# Altium footprint library MountingHole.PcbLib: 167 footprints (part 2 of 11)
Each footprint in its own frame and in the unit in brackets; x right, y up, seen from the top. Pads: shape width x height; smd on the part's side, far side on the other; paste and mask are expansions set on the pad; w line width, h text height; cw(c..) or ccw(c..) is an arc to the next point about the centre after c.
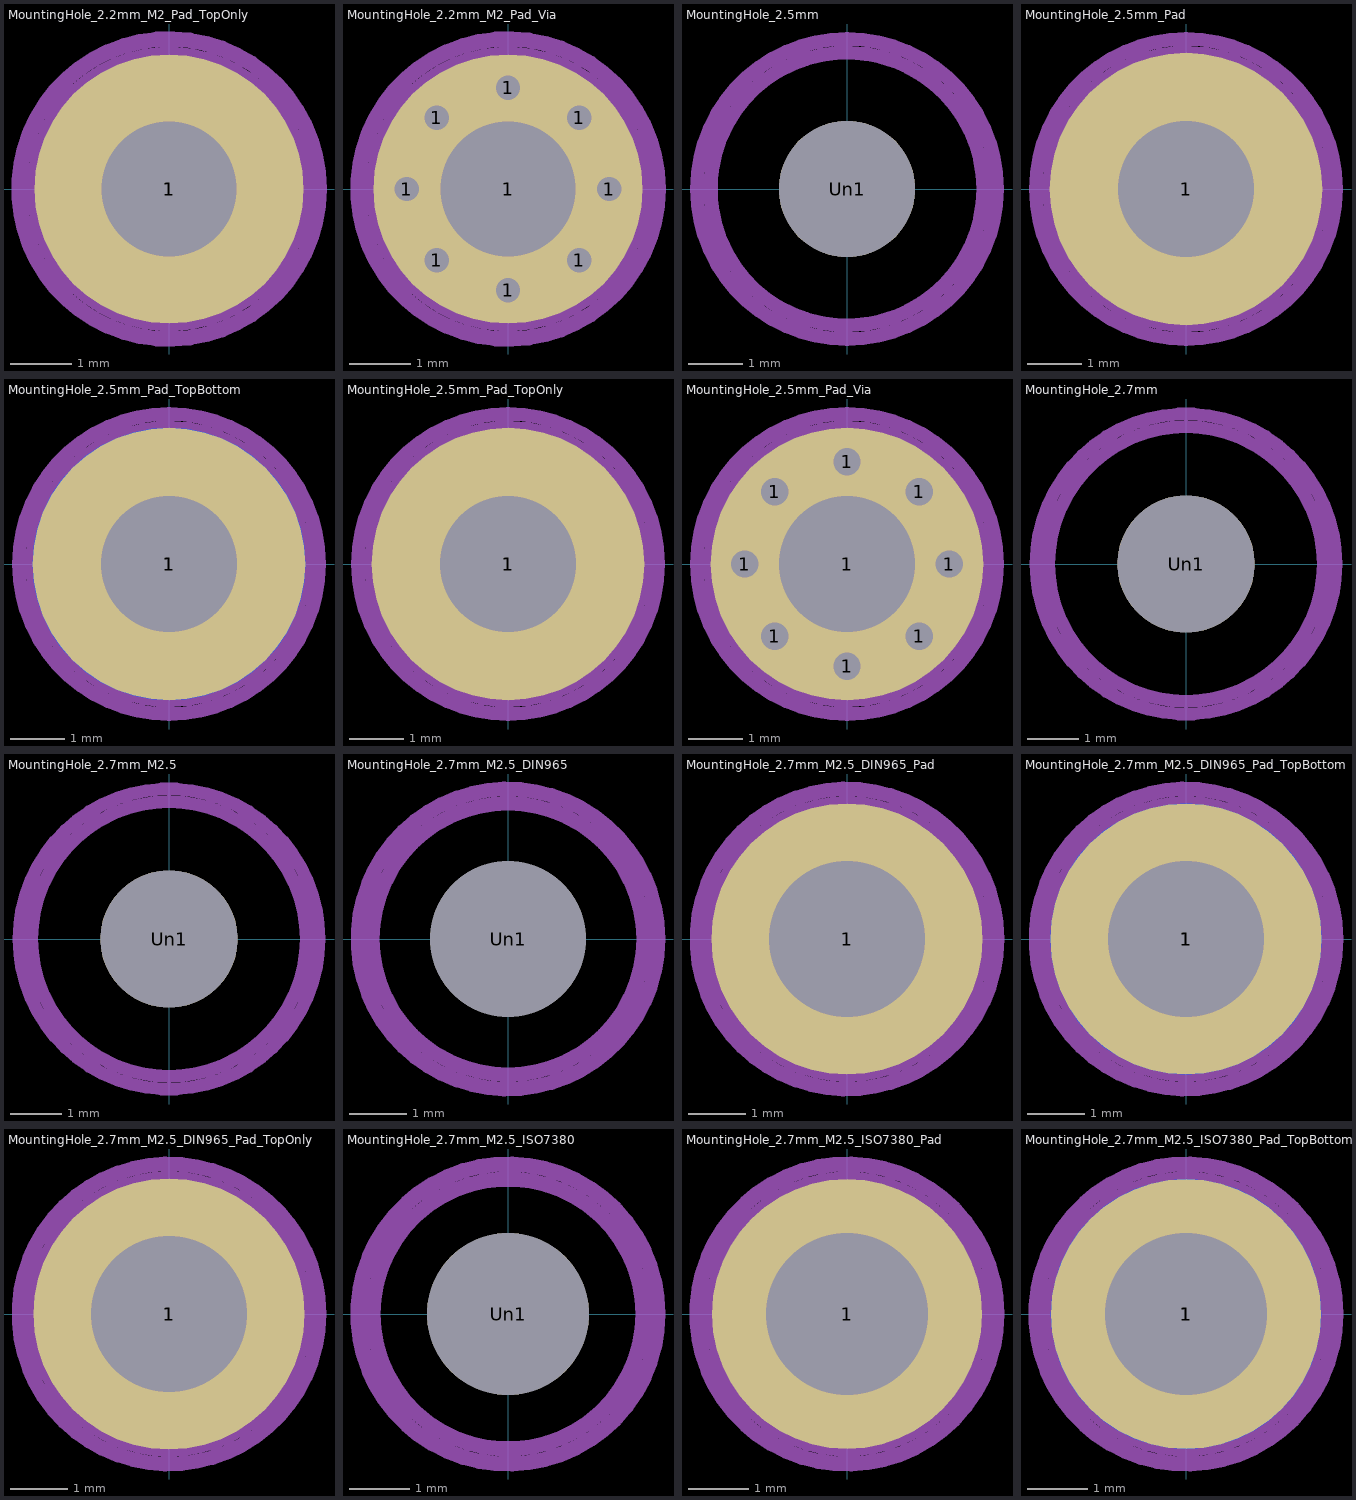
[diagram p1: the footprints below, top view; thin cyan lines are the x and y axes]

## MountingHole_2.2mm_M2_Pad_TopOnly [mm]
pads (2):
  round 2.6 hole 2.2: 1(0,0)
  round 4.4 smd: 1(0,0)
Top Assembly:
  text "'.Designator'" at -4.047,-0.84 h1
Top Courtyard:
  circle w0.254: c0,0 r2.45
Top Designator:
  text ".Designator" at -7.768,-0.508 h1.52
Cmts.User:
  circle w0.254: c0,0 r2.2

## MountingHole_2.2mm_M2_Pad_Via [mm]
pads (9):
  round 0.7 hole 0.4: 1(-1.65,0) 1(-1.167,-1.167) 1(-1.167,1.167) 1(0,-1.65) 1(0,1.65) 1(1.167,-1.167) 1(1.167,1.167) 1(1.65,0)
  round 4.4 hole 2.2: 1(0,0)
Top Assembly:
  text "'.Designator'" at -4.047,-0.84 h1
Top Courtyard:
  circle w0.254: c0,0 r2.45
Top Designator:
  text ".Designator" at -7.768,-0.508 h1.52
Cmts.User:
  circle w0.254: c0,0 r2.2

## MountingHole_2.5mm [mm]
pads (1):
  round 2.5 hole 2.5: Un1(0,0)
Top Assembly:
  text "'.Designator'" at -4.047,-0.84 h1
Top Courtyard:
  circle w0.254: c0,0 r2.75
Top Designator:
  text ".Designator" at -7.768,-0.508 h1.52
Cmts.User:
  circle w0.254: c0,0 r2.5

## MountingHole_2.5mm_Pad [mm]
pads (1):
  round 5 hole 2.5: 1(0,0)
Top Assembly:
  text "'.Designator'" at -4.047,-0.84 h1
Top Courtyard:
  circle w0.254: c0,0 r2.75
Top Designator:
  text ".Designator" at -7.768,-0.508 h1.52
Cmts.User:
  circle w0.254: c0,0 r2.5

## MountingHole_2.5mm_Pad_TopBottom [mm]
pads (3):
  round 2.9 hole 2.5: 1(0,0)
  round 5 smd: 1(0,0)
  round 5 smd far side: 1(0,0)
Top Assembly:
  text "'.Designator'" at -4.047,-0.84 h1
Top Courtyard:
  circle w0.254: c0,0 r2.75
Top Designator:
  text ".Designator" at -7.768,-0.508 h1.52
Cmts.User:
  circle w0.254: c0,0 r2.5

## MountingHole_2.5mm_Pad_TopOnly [mm]
pads (2):
  round 2.9 hole 2.5: 1(0,0)
  round 5 smd: 1(0,0)
Top Assembly:
  text "'.Designator'" at -4.047,-0.84 h1
Top Courtyard:
  circle w0.254: c0,0 r2.75
Top Designator:
  text ".Designator" at -7.768,-0.508 h1.52
Cmts.User:
  circle w0.254: c0,0 r2.5

## MountingHole_2.5mm_Pad_Via [mm]
pads (9):
  round 0.8 hole 0.5: 1(-1.875,0) 1(-1.326,-1.326) 1(-1.326,1.326) 1(0,-1.875) 1(0,1.875) 1(1.326,-1.326) 1(1.326,1.326) 1(1.875,0)
  round 5 hole 2.5: 1(0,0)
Top Assembly:
  text "'.Designator'" at -4.047,-0.84 h1
Top Courtyard:
  circle w0.254: c0,0 r2.75
Top Designator:
  text ".Designator" at -7.768,-0.508 h1.52
Cmts.User:
  circle w0.254: c0,0 r2.5

## MountingHole_2.7mm [mm]
pads (1):
  round 2.7 hole 2.7: Un1(0,0)
Top Assembly:
  text "'.Designator'" at -4.047,-0.84 h1
Top Courtyard:
  circle w0.254: c0,0 r2.95
Top Designator:
  text ".Designator" at -7.768,-0.508 h1.52
Cmts.User:
  circle w0.254: c0,0 r2.7

## MountingHole_2.7mm_M2.5 [mm]
pads (1):
  round 2.7 hole 2.7: Un1(0,0)
Top Assembly:
  text "'.Designator'" at -4.047,-0.84 h1
Top Courtyard:
  circle w0.254: c0,0 r2.95
Top Designator:
  text ".Designator" at -7.768,-0.508 h1.52
Cmts.User:
  circle w0.254: c0,0 r2.7

## MountingHole_2.7mm_M2.5_DIN965 [mm]
pads (1):
  round 2.7 hole 2.7: Un1(0,0)
Top Assembly:
  text "'.Designator'" at -4.047,-0.84 h1
Top Courtyard:
  circle w0.254: c0,0 r2.6
Top Designator:
  text ".Designator" at -7.768,-0.508 h1.52
Cmts.User:
  circle w0.254: c0,0 r2.35

## MountingHole_2.7mm_M2.5_DIN965_Pad [mm]
pads (1):
  round 4.7 hole 2.7: 1(0,0)
Top Assembly:
  text "'.Designator'" at -4.047,-0.84 h1
Top Courtyard:
  circle w0.254: c0,0 r2.6
Top Designator:
  text ".Designator" at -7.768,-0.508 h1.52
Cmts.User:
  circle w0.254: c0,0 r2.35

## MountingHole_2.7mm_M2.5_DIN965_Pad_TopBottom [mm]
pads (3):
  round 3.1 hole 2.7: 1(0,0)
  round 4.7 smd: 1(0,0)
  round 4.7 smd far side: 1(0,0)
Top Assembly:
  text "'.Designator'" at -4.047,-0.84 h1
Top Courtyard:
  circle w0.254: c0,0 r2.6
Top Designator:
  text ".Designator" at -7.768,-0.508 h1.52
Cmts.User:
  circle w0.254: c0,0 r2.35

## MountingHole_2.7mm_M2.5_DIN965_Pad_TopOnly [mm]
pads (2):
  round 3.1 hole 2.7: 1(0,0)
  round 4.7 smd: 1(0,0)
Top Assembly:
  text "'.Designator'" at -4.047,-0.84 h1
Top Courtyard:
  circle w0.254: c0,0 r2.6
Top Designator:
  text ".Designator" at -7.768,-0.508 h1.52
Cmts.User:
  circle w0.254: c0,0 r2.35

## MountingHole_2.7mm_M2.5_ISO7380 [mm]
pads (1):
  round 2.7 hole 2.7: Un1(0,0)
Top Assembly:
  text "'.Designator'" at -4.047,-0.84 h1
Top Courtyard:
  circle w0.254: c0,0 r2.5
Top Designator:
  text ".Designator" at -7.768,-0.508 h1.52
Cmts.User:
  circle w0.254: c0,0 r2.25

## MountingHole_2.7mm_M2.5_ISO7380_Pad [mm]
pads (1):
  round 4.5 hole 2.7: 1(0,0)
Top Assembly:
  text "'.Designator'" at -4.047,-0.84 h1
Top Courtyard:
  circle w0.254: c0,0 r2.5
Top Designator:
  text ".Designator" at -7.768,-0.508 h1.52
Cmts.User:
  circle w0.254: c0,0 r2.25

## MountingHole_2.7mm_M2.5_ISO7380_Pad_TopBottom [mm]
pads (3):
  round 3.1 hole 2.7: 1(0,0)
  round 4.5 smd: 1(0,0)
  round 4.5 smd far side: 1(0,0)
Top Assembly:
  text "'.Designator'" at -4.047,-0.84 h1
Top Courtyard:
  circle w0.254: c0,0 r2.5
Top Designator:
  text ".Designator" at -7.768,-0.508 h1.52
Cmts.User:
  circle w0.254: c0,0 r2.25